# EAGLE library part MICRO-SD (library UPRA_SD_card)
Micro SD Card MOLEX - 502774-0891 CONNECTOR, MICRO SD, PUSH PULL, SMT, R/A LINK <http://hu.farnell.com/molex/502774-0891/connector-micro-sd-push-pull-smt/dp/2064063>
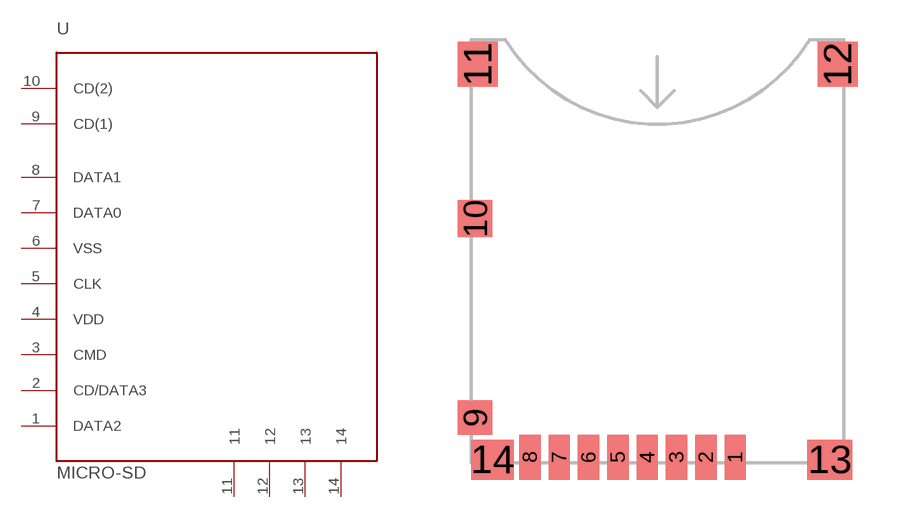
[diagram p0: symbol with the pads of MICRO-SD_STANDALONE; footprint MICRO-SD_STANDALONE]

Designator prefix U

## MICRO-SD-STANDALONE  [MICRO-SD_STANDALONE]
1  DATA2
2  CD/DATA3
3  CMD
4  VDD
5  CLK
6  VSS
7  DATA0
8  DATA1
9  CD(1)
10  CD(2)
11  11
12  12
13  13
14  14

## Footprint MICRO-SD_STANDALONE (pad centres in mm)
smd 0.8 x 1.68: 1 2.915,-6.78; 2 1.815,-6.78; 3 0.715,-6.78; 4 -0.385,-6.78; 5 -1.485,-6.78; 6 -2.585,-6.78; 7 -3.685,-6.78; 8 -4.785,-6.78
smd 1.29 x 1.3: 9 -6.84,-5.29
smd 1.29 x 1.4: 10 -6.84,2.18
smd 1.5 x 1.7: 11 -6.735,7.98; 12 6.765,7.98
smd 1.7 x 1.5: 13 6.465,-6.87
smd 1.6 x 1.5: 14 -6.185,-6.87